# EAGLE library part LS01-15B05S (library alexa)
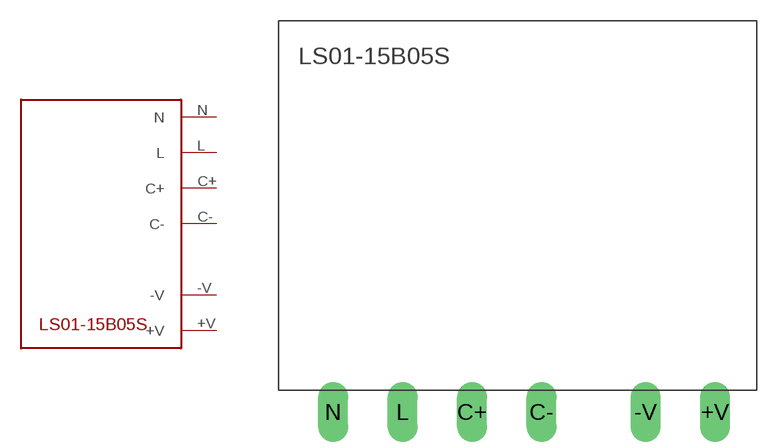
[diagram p0: symbol with the pads of LS01-15B05S; footprint LS01-15B05S]

Designator prefix -

## LS01-15B05S  [LS01-15B05S]
+V  +V  pwr
-V  -V  pwr
C+  C+
C-  C-
L  L  pwr
N  N  pwr

## Footprint LS01-15B05S (pad centres in mm)
drill 0.8 pad 2.184 long: +V 25.4,-7.62; -V 20.32,-7.62; C+ 7.62,-7.62; C- 12.7,-7.62; L 2.54,-7.62; N -2.54,-7.62